# Altium footprint library RES_0603_YAGEO.PcbLib: 4 footprints
Each footprint in its own frame and in the unit in brackets; x right, y up, seen from the top. Pads: shape width x height; smd on the part's side, far side on the other; paste and mask are expansions set on the pad; w line width, h text height; cw(c..) or ccw(c..) is an arc to the next point about the centre after c.
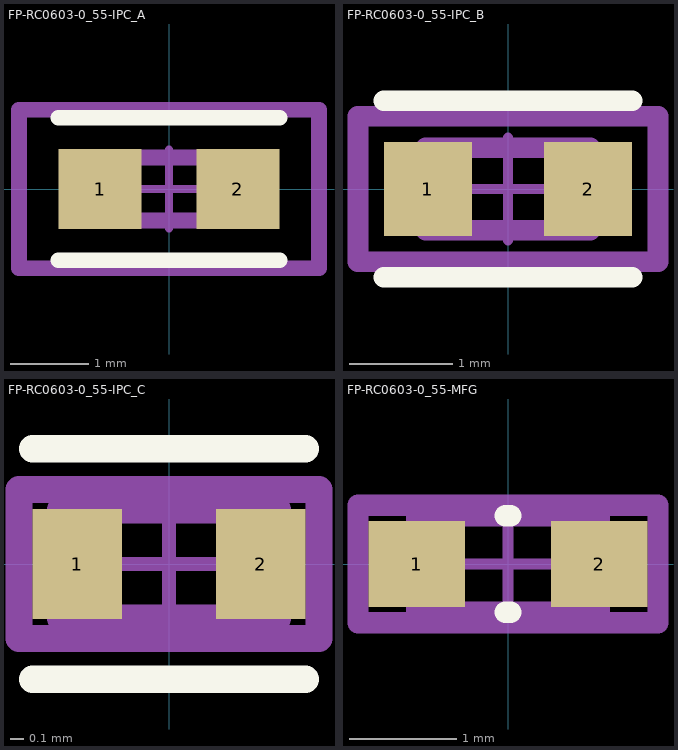
[diagram p0: the footprints below, top view; thin cyan lines are the x and y axes]

## FP-RC0603-0_55-IPC_A [mm]
pads (2):
  rect 1.059x1.012 smd paste+0 mask+0: 1(-0.877,0) 2(0.877,0)
Top Overlay:
  lines w0.2: -1.406,-0.906 1.406,-0.906 ; -1.406,0.906 1.406,0.906
Top Assembly:
  lines w0.2: -1.906,-1.006 1.906,-1.006 1.906,1.006 -1.906,1.006 -1.906,-1.006
  text ".Designator" at 0,0.187 h1
Top 3D Body:
  lines w0.2: -0.8,-0.4 0.8,-0.4 0.8,0.4 -0.8,0.4 -0.8,-0.4
Top Courtyard:
  lines w0.2: -1.906,-1.006 1.906,-1.006 1.906,1.006 -1.906,1.006 -1.906,-1.006
Top Component Center:
  lines w0.1: -0.5,0 0.5,0 ; 0,-0.5 0,0.5
3D body "Res_Yageo_RC0603FR-07100KL_eec.STEP": height 0.25, standoff 0, extent -1.906,-1.006 1.906,1.006

## FP-RC0603-0_55-IPC_B [mm]
pads (2):
  rect 0.859x0.912 smd paste+0 mask+0: 1(-0.777,0) 2(0.777,0)
Top Overlay:
  lines w0.2: -1.206,-0.856 1.206,-0.856 ; -1.206,0.856 1.206,0.856
Top Assembly:
  lines w0.2: -1.456,-0.706 1.456,-0.706 1.456,0.706 -1.456,0.706 -1.456,-0.706
  text ".Designator" at 0,0.187 h1
Top 3D Body:
  lines w0.2: -0.8,-0.4 0.8,-0.4 0.8,0.4 -0.8,0.4 -0.8,-0.4
Top Courtyard:
  lines w0.2: -1.456,-0.706 1.456,-0.706 1.456,0.706 -1.456,0.706 -1.456,-0.706
Top Component Center:
  lines w0.1: -0.5,0 0.5,0 ; 0,-0.5 0,0.5
3D body "Res_Yageo_RC0603FR-07100KL_eec.STEP": height 0.25, standoff 0, extent -1.456,-0.706 1.456,0.706

## FP-RC0603-0_55-IPC_C [mm]
pads (2):
  rect 0.659x0.812 smd paste+0 mask+0: 1(-0.677,0) 2(0.677,0)
Top Overlay:
  lines w0.2: -1.006,-0.85 1.006,-0.85 ; -1.006,0.85 1.006,0.85
Top Assembly:
  lines w0.2: -1.106,-0.55 1.106,-0.55 1.106,0.55 -1.106,0.55 -1.106,-0.55
  text ".Designator" at 0,0.187 h1
Top 3D Body:
  lines w0.2: -0.8,-0.4 0.8,-0.4 0.8,0.4 -0.8,0.4 -0.8,-0.4
Top Courtyard:
  lines w0.2: -1.106,-0.55 1.106,-0.55 1.106,0.55 -1.106,0.55 -1.106,-0.55
Top Component Center:
  lines w0.1: -0.5,0 0.5,0 ; 0,-0.5 0,0.5
3D body "Res_Yageo_RC0603FR-07100KL_eec.STEP": height 0.25, standoff 0, extent -1.106,-0.55 1.106,0.55

## FP-RC0603-0_55-MFG [mm]
pads (2):
  rect 0.9x0.8 smd paste+0 mask+0: 1(-0.85,0) 2(0.85,0)
Top Overlay:
  lines w0.2: -0.025,-0.45 0.025,-0.45 ; -0.025,0.45 0.025,0.45
Top Assembly:
  lines w0.2: -1.4,-0.55 1.4,-0.55 1.4,0.55 -1.4,0.55 -1.4,-0.55
  text ".Designator" at 0,0.187 h1
Top 3D Body:
  lines w0.2: -0.85,-0.45 0.85,-0.45 0.85,0.45 -0.85,0.45 -0.85,-0.45
Top Courtyard:
  lines w0.2: -1.4,-0.55 1.4,-0.55 1.4,0.55 -1.4,0.55 -1.4,-0.55
Top Component Center:
  lines w0.1: -0.5,0 0.5,0 ; 0,-0.5 0,0.5
3D body "Res_Yageo_RC0603FR-07100KL_eec.STEP": height 0.25, standoff 0, extent -1.4,-0.55 1.4,0.55